# Altium footprint library Package_TO_SOT_THT.PcbLib: 236 footprints (part 1 of 15)
Each footprint in its own frame and in the unit in brackets; x right, y up, seen from the top. Pads: shape width x height; smd on the part's side, far side on the other; paste and mask are expansions set on the pad; w line width, h text height; cw(c..) or ccw(c..) is an arc to the next point about the centre after c.
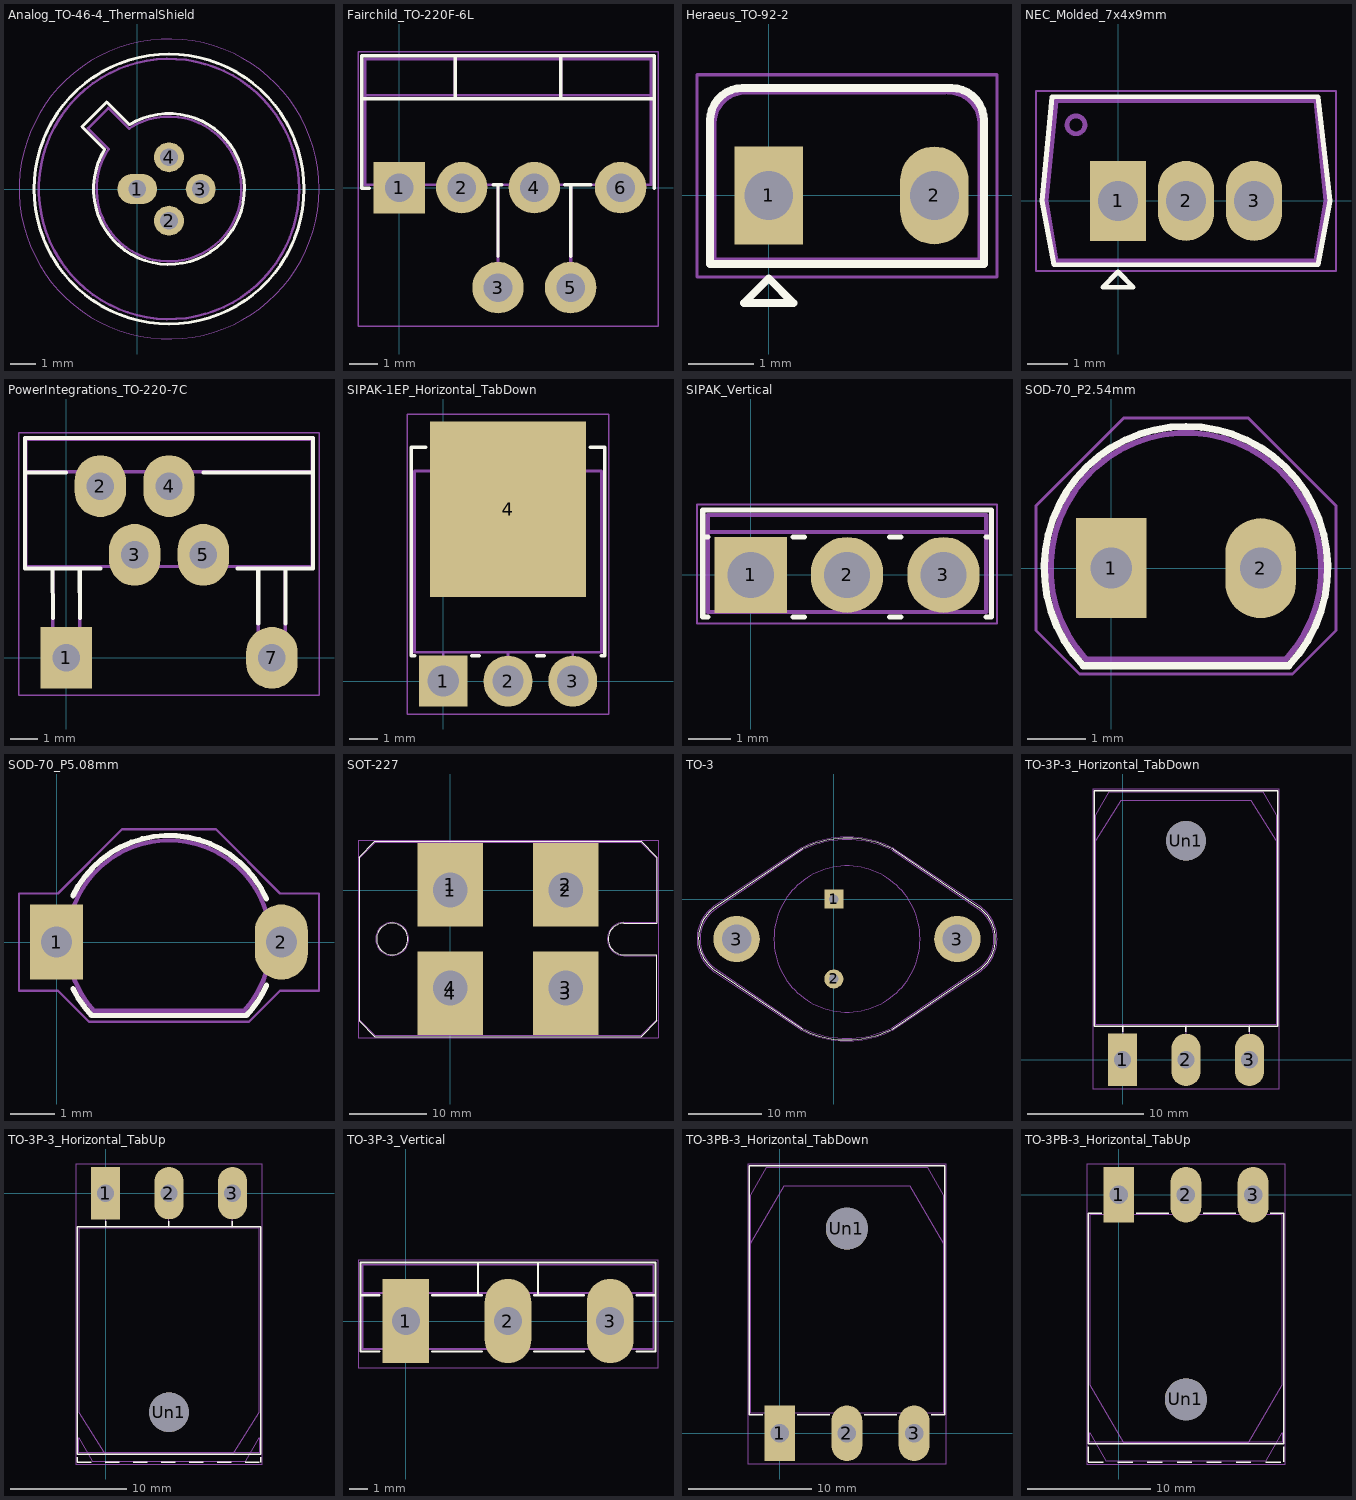
[diagram p0: the footprints below, top view; thin cyan lines are the x and y axes]

## Analog_TO-46-4_ThermalShield [mm]
pads (4):
  rrect100% 1.6x1.2 hole 0.7: 1(0,0)
  round 1.2 hole 0.7: 2(1.27,-1.27) 3(2.54,0) 4(1.27,1.27)
F.SilkS:
  circle w0.12: c1.27,0 r5.4
  lines w0.12: -2.214,2.494 -1.224,3.484 -0.312,2.572 cw(c1.27,0) -1.302,1.583 -2.214,2.494
F.CrtYd:
  circle w0.05: c1.27,0 r6
F.Fab:
  circle w0.1: c1.27,0 r5.207
  lines w0.1: -1.15,1.598 ccw(c1.27,0) -0.329,2.419 -1.156,3.247 -1.977,2.426 -1.149,1.599
  text "REF**" at 0.099,5.827 h1
  text "'.Designator'" at -2.797,-0.84 h1

## Fairchild_TO-220F-6L [mm]
pads (6):
  rect 1.8x1.8 hole 1: 1(0,0)
  rrect100% 1.8x1.8 hole 1: 2(2.19,0) 3(3.46,-3.5) 4(4.73,0) 5(6,-3.5) 6(7.75,0)
F.SilkS:
  lines w0.12: -1.31,3.111 8.93,3.111 ; -1.05,-0.021 -1.31,-0.021 -1.31,4.62 8.93,4.62 8.93,-0.021 ; 1.96,3.111 1.96,4.62 ; 3.3,0.1 3.6,0.1 ; 3.46,-2.4 3.46,0.1 ; 5.66,3.111 5.66,4.62 ; 5.8,0.1 6.7,0.1 ; 6,-2.4 6,0.1
F.CrtYd:
  lines w0.05: -1.44,-4.85 -1.44,4.75 9.06,4.75 9.06,-4.85 -1.44,-4.85
F.Fab:
  lines w0.1: -1.19,3.23 8.81,3.23 ; 0,0 0,0.1 ; 1.96,3.23 1.96,4.5 ; 5.66,3.23 5.66,4.5 ; -1.19,0.1 -1.19,4.5 8.81,4.5 8.81,0.1 -1.19,0.1
  lines w0.12: 3.46,-3.5 3.46,0.1 ; 6,-3.5 6,0.1
  text "'.Designator'" at -0.237,4.78 h1

## Heraeus_TO-92-2 [mm]
pads (2):
  rect 1.05x1.5 hole 0.75: 1(0,0)
  rrect100% 1.05x1.5 hole 0.75: 2(2.54,0)
F.SilkS:
  lines w0.12: -0.9,-1.05 3.3,-1.05 3.3,1.15 ccw(c2.8,1.15) 2.8,1.65 -0.4,1.65 ccw(c-0.4,1.15) -0.9,1.15 -0.9,-1.05 ; -0.381,-1.651 0.381,-1.651 0,-1.27 -0.381,-1.651
F.CrtYd:
  lines w0.05: -1.1,-1.25 3.5,-1.25 3.5,1.85 -1.1,1.85 -1.1,-1.25
F.Fab:
  lines w0.1: 2.7,1.6 -0.35,1.6 ccw(c-0.35,1.1) -0.85,1.1 -0.85,-1 3.25,-1 3.25,1.1 ccw(c2.75,1.1) 2.75,1.6
  text "'.Designator'" at -2.777,-0.84 h1

## NEC_Molded_7x4x9mm [mm]
pads (3):
  rect 1.4x2 hole 1: 1(0,0)
  rrect100% 1.4x2 hole 1: 2(1.7,0) 3(3.4,0)
F.SilkS:
  lines w0.12: -1.9,0 -1.6,-1.6 5,-1.6 5.3,0 5,2.6 -1.65,2.6 -1.9,0 ; -0.381,-2.159 0.381,-2.159 0,-1.778 -0.381,-2.159
F.CrtYd:
  lines w0.05: -2.05,-1.75 -2.05,2.75 5.45,2.75 5.45,-1.75 -2.05,-1.75
F.Fab:
  circle w0.12: c-1.05,1.9 r0.224
  lines w0.12: -1.8,0 -1.55,2.5 4.95,2.5 5.2,0 4.95,-1.5 -1.55,-1.5 -1.8,0
  text "'.Designator'" at -2.347,0.61 h1

## PowerIntegrations_TO-220-7C [mil]
pads (6):
  rect 75x90 hole 40: 1(0,0)
  rrect100% 75x90 hole 40: 2(50,250) 3(100,150) 4(150,250) 5(200,150) 7(300,0)
F.SilkS:
  lines w5.91: -60,270 0,270 ; -20,130 -19.29,58.27 ; 20,130 20.08,58.27 ; 50,130 -60,130 -60,320 360,320 360,130 250,130 ; 200,270 360,270 ; 280,50 280,130 ; 320,50 320,130
F.CrtYd:
  lines w1.97: -68.5,-54.72 368.5,-54.72 368.5,327.95 -68.5,327.95 -68.5,-54.72
F.Fab:
  lines w4.72: -58.66,270.87 358.66,270.87 ; -19.29,133.07 -19.29,-0.79 20.08,-0.79 20.08,133.07 ; 279.92,133.07 279.92,-0.79 319.29,-0.79 319.29,133.07 ; -58.66,133.07 -58.66,318.11 358.66,318.11 358.66,133.07 -58.66,133.07
  text "'.Designator'" at -9.32,166.92 h39.37

## SIPAK-1EP_Horizontal_TabDown [mm]
pads (4):
  rect 1.714x1.8 hole 1.1: 1(0,0)
  rrect100% 1.714x1.8 hole 1.1: 2(2.286,0) 3(4.572,0)
  rect 5.5x6.2 smd: 4(2.286,6.073)
F.SilkS:
  lines w0.12: -1.008,0.9 -1.134,0.9 -1.134,8.26 -0.614,8.26 ; 1.008,0.9 1.279,0.9 ; 3.294,0.9 3.565,0.9 ; 5.186,8.26 5.706,8.26 5.706,0.9 5.58,0.9
F.CrtYd:
  lines w0.05: -1.27,-1.16 5.84,-1.16 5.84,9.43 -1.27,9.43 -1.27,-1.16
F.Fab:
  lines w0.1: 0,0 0,1.02 ; 2.286,0 2.286,1.02 ; 4.572,0 4.572,1.02 ; -1.014,1.02 5.586,1.02 5.586,7.42 -1.014,7.42 -1.014,1.02 ; -0.379,7.42 -0.379,8.14 4.951,8.14 4.951,7.42 -0.379,7.42
  text "'.Designator'" at -1.761,9.453 h1

## SIPAK_Vertical [mm]
pads (3):
  rect 1.714x1.8 hole 1.1: 1(0,0)
  rrect100% 1.714x1.8 hole 1.1: 2(2.286,0) 3(4.572,0)
F.SilkS:
  lines w0.12: -1.134,0.9 -1.008,0.9 ; -1.008,-1 -1.134,-1 -1.134,1.54 5.706,1.54 5.706,-1 5.58,-1 ; 1.008,-1 1.279,-1 ; 1.008,0.9 1.279,0.9 ; 3.294,-1 3.565,-1 ; 3.294,0.9 3.565,0.9 ; 5.58,0.9 5.706,0.9
F.CrtYd:
  lines w0.05: -1.27,-1.15 -1.27,1.67 5.84,1.67 5.84,-1.15 -1.27,-1.15
F.Fab:
  lines w0.1: -1.014,1.02 5.586,1.02 ; -1.014,-0.88 -1.014,1.42 5.586,1.42 5.586,-0.88 -1.014,-0.88
  text "'.Designator'" at -1.761,1.7 h1

## SOD-70_P2.54mm [mm]
pads (2):
  rect 1.2x1.7 hole 0.7: 1(0,0)
  rrect100% 1.2x1.7 hole 0.7: 2(2.54,0)
F.SilkS:
  lines w0.12: -0.477,-1.66 3.017,-1.66 ccw(c1.27,0) -0.477,-1.66
F.CrtYd:
  lines w0.05: -1.28,-1.06 -0.54,-1.8 3.08,-1.8 3.82,-1.06 3.82,1.06 2.33,2.55 0.21,2.55 -1.28,1.06 -1.28,-1.06
F.Fab:
  lines w0.1: -0.429,-1.55 2.969,-1.55 ccw(c1.27,0) -0.429,-1.55
  text "'.Designator'" at -2.547,2.66 h1

## SOD-70_P5.08mm [mm]
pads (2):
  rect 1.2x1.7 hole 0.7: 1(0,0)
  rrect100% 1.2x1.7 hole 0.7: 2(5.08,0)
F.SilkS:
  lines w0.12: 0.371,-1.05 ccw(c2.54,0) 0.793,-1.66 4.287,-1.66 ccw(c2.54,0) 4.744,-0.975 ; 0.371,1.05 cw(c2.54,0) 4.744,0.975
F.CrtYd:
  lines w0.05: -0.85,-1.1 -0.85,1.1 0.03,1.1 1.48,2.55 3.6,2.55 5.05,1.1 5.93,1.1 5.93,-1.1 5.05,-1.1 4.35,-1.8 0.73,-1.8 0.03,-1.1 -0.85,-1.1
F.Fab:
  lines w0.1: 0.841,-1.55 4.239,-1.55 ccw(c2.54,0) 0.841,-1.55
  text "'.Designator'" at -1.547,2.66 h1

## SOT-227 [mm]
pads (8):
  round 8 hole 4.5: 1(0,0) 2(15.05,0) 3(15.05,-12.75) 4(0,-12.75)
  rect 8.55x10.88 smd: 1(0,0.665) 2(15.05,0.665) 3(15.05,-13.415) 4(0,-13.415)
F.SilkS:
  circle w0.12: c-7.55,-6.375 r2.04
  lines w0.12: -11.86,-17.035 -9.8,-19.085 24.85,-19.085 26.91,-17.035 26.91,-8.415 22.6,-8.415 cw(c22.6,-6.375) 22.6,-4.335 26.91,-4.335 26.91,4.285 24.85,6.335 -9.8,6.335 -11.86,4.285 -11.86,-17.035
F.CrtYd:
  lines w0.05: -12,-19.23 -12,6.48 27.05,6.48 27.05,-19.23 -12,-19.23
F.Fab:
  circle w0.1: c-7.55,-6.375 r2.15
  lines w0.1: -11.75,-16.975 -11.75,4.225 -9.75,6.225 24.8,6.225 26.8,4.225 26.8,-4.225 22.6,-4.225 ccw(c22.6,-6.375) 22.6,-8.525 26.8,-8.525 26.8,-16.975 24.8,-18.975 -9.75,-18.975 -11.75,-16.975
  text "'.Designator'" at 3.478,-6.215 h1

## TO-3 [mm]
pads (4):
  rect 2.6x2.6 hole 1.3: 1(0,0)
  round 2.6 hole 1.3: 2(0,-10.92)
  round 6.35 hole 4: 3(-13.3,-5.45) 3(16.9,-5.45)
F.SilkS:
  lines w0.12: -4.325,-17.825 ccw(c1.765,-5.561) 8.1,-17.7 19.9,-9.7 ccw(c16.9,-5.45) 19.9,-1.2 8.1,6.8 ccw(c1.801,-5.452) -4.3,6.9 -16.2,-1.1 ccw(c-13.311,-5.434) -16.3,-9.7 -4.3,-17.8
F.CrtYd:
  lines w0.05: -16.4,-9.9 -4.5,-17.9 ccw(c1.8,-5.45) 8.1,-17.9 20,-9.9 ccw(c16.9,-5.45) 20,-1 8.1,7 ccw(c1.8,-5.45) -4.5,7 -16.4,-1 ccw(c-13.3,-5.45) -16.4,-9.9
F.Fab:
  circle w0.1: c1.8,-5.45 r10
  circle w0.1: c-13.3,-5.45 r2
  circle w0.1: c16.9,-5.45 r2
  lines w0.1: -16.11,-9.58 -4.38,-17.57 ccw(c1.79,-5.403) 7.98,-17.56 19.71,-9.58 ccw(c16.9,-5.45) 19.71,-1.32 7.98,6.67 ccw(c1.8,-5.45) -4.38,6.67 -16.11,-1.32 ccw(c-13.3,-5.45) -16.11,-9.58
  text "'.Designator'" at -4.047,-5.09 h1

## TO-3P-3_Horizontal_TabDown [mm]
pads (4):
  rect 2.5x4.5 hole 1.5: 1(0,0)
  rrect100% 2.5x4.5 hole 1.5: 2(5.45,0) 3(10.9,0)
  rrect100% 3.4x3.4 hole 3.4: Un1(5.45,18.8)
F.SilkS:
  lines w0.12: 0,2.4 0,2.88 ; 5.45,2.4 5.45,2.88 ; 10.9,2.4 10.9,2.88 ; -2.42,2.88 -2.42,23.12 13.32,23.12 13.32,2.88 -2.42,2.88
F.CrtYd:
  lines w0.05: -2.55,-2.5 -2.55,23.25 13.45,23.25 13.45,-2.5 -2.55,-2.5
F.Fab:
  circle w0.1: c5.45,18.8 r1.6
  lines w0.1: 0,0 0,3 ; 5.45,0 5.45,3 ; 10.9,0 10.9,3 ; -2.3,18.8 -0.11,22.3 11.01,22.3 13.2,18.8 ; -2.3,18.8 -2.3,3 13.2,3 13.2,18.8 ; -2.3,18.8 -2.3,21 -1.15,23 12.05,23 13.2,21 13.2,18.8
  text "'.Designator'" at 1.403,23.28 h1

## TO-3P-3_Horizontal_TabUp [mm]
pads (4):
  rect 2.5x4.5 hole 1.5: 1(0,0)
  rrect100% 2.5x4.5 hole 1.5: 2(5.45,0) 3(10.9,0)
  rrect100% 3.4x3.4 hole 3.4: Un1(5.45,-18.8)
F.SilkS:
  lines w0.12: -2.42,-22.66 -2.42,-23.12 -1.22,-23.12 ; -0.021,-23.12 1.18,-23.12 ; 0,-2.88 0,-2.4 ; 2.38,-23.12 3.58,-23.12 ; 4.78,-23.12 5.98,-23.12 ; 5.45,-2.88 5.45,-2.4 ; 7.18,-23.12 8.38,-23.12 ; 9.58,-23.12 10.78,-23.12 ; 10.9,-2.88 10.9,-2.4 ; 11.98,-23.12 13.18,-23.12 ; 13.32,-23.12 13.32,-22.66 ; -2.42,-22.42 13.32,-22.42 13.32,-2.88 -2.42,-2.88 -2.42,-22.42
F.CrtYd:
  lines w0.05: -2.55,-23.25 -2.55,2.5 13.45,2.5 13.45,-23.25 -2.55,-23.25
F.Fab:
  circle w0.1: c5.45,-18.8 r1.6
  lines w0.1: 0,-3 0,0 ; 5.45,-3 5.45,0 ; 10.9,-3 10.9,0 ; -2.3,-22.3 13.2,-22.3 13.2,-21 12.05,-23 -1.15,-23 -2.3,-21 -2.3,-22.3 ; -2.3,-18.8 -2.3,-3 13.2,-3 13.2,-18.8 11.01,-22.3 -0.11,-22.3 -2.3,-18.8
  text "'.Designator'" at 1.403,-24.96 h1

## TO-3P-3_Vertical [mm]
pads (3):
  rect 2.5x4.5 hole 1.5: 1(0,0)
  rrect100% 2.5x4.5 hole 1.5: 2(5.45,0) 3(10.9,0)
F.SilkS:
  lines w0.12: -2.42,1.38 -1.4,1.38 ; -1.4,-1.62 -2.42,-1.62 -2.42,3.12 13.32,3.12 13.32,-1.62 12.3,-1.62 ; 1.4,-1.62 4.051,-1.62 ; 1.4,1.38 4.051,1.38 ; 3.85,1.38 3.85,3.12 ; 6.85,-1.62 9.5,-1.62 ; 6.85,1.38 9.5,1.38 ; 7.051,1.38 7.051,3.12 ; 12.3,1.38 13.32,1.38
F.CrtYd:
  lines w0.05: -2.55,-2.5 13.45,-2.5 13.45,3.25 -2.55,3.25 -2.55,-2.5
F.Fab:
  lines w0.1: -2.3,1.5 13.2,1.5 ; 3.85,1.5 3.85,3 ; 7.05,1.5 7.05,3 ; -2.3,-1.5 -2.3,3 13.2,3 13.2,-1.5 -2.3,-1.5
  text "'.Designator'" at 1.403,3.28 h1

## TO-3PB-3_Horizontal_TabDown [mm]
pads (4):
  rect 2.5x4.5 hole 1.5: 1(0,0)
  rrect100% 2.5x4.5 hole 1.5: 2(5.45,0) 3(10.9,0)
  rrect100% 3.4x3.4 hole 3.4: Un1(5.45,16.6)
F.SilkS:
  lines w0.12: -1.4,1.48 -2.47,1.48 -2.47,21.72 13.37,21.72 13.37,1.48 12.3,1.48 ; 1.4,1.48 4.051,1.48 ; 6.85,1.48 9.5,1.48
F.CrtYd:
  lines w0.05: -2.6,-2.5 -2.6,21.85 13.51,21.85 13.51,-2.5 -2.6,-2.5
F.Fab:
  circle w0.1: c5.45,16.6 r1.6
  lines w0.1: 0,0 0,1.6 ; 5.45,0 5.45,1.6 ; 10.9,0 10.9,1.6 ; -2.35,15.401 0.351,20.1 10.55,20.1 13.25,15.401 ; -2.35,15.401 -2.35,19.3 -1.05,21.6 11.95,21.6 13.25,19.3 13.25,15.401 ; -2.35,15.401 -2.35,1.6 13.25,1.6 13.25,15.401
  text "'.Designator'" at 1.403,21.88 h1

## TO-3PB-3_Horizontal_TabUp [mm]
pads (4):
  rect 2.5x4.5 hole 1.5: 1(0,0)
  rrect100% 2.5x4.5 hole 1.5: 2(5.45,0) 3(10.9,0)
  rrect100% 3.4x3.4 hole 3.4: Un1(5.45,-16.6)
F.SilkS:
  lines w0.12: -2.47,-21.72 -1.27,-21.72 ; -2.47,-21.66 -2.47,-20.46 ; -1.4,-1.48 -2.47,-1.48 -2.47,-20.22 13.37,-20.22 13.37,-1.48 12.3,-1.48 ; -0.07,-21.72 1.13,-21.72 ; 1.4,-1.48 4.051,-1.48 ; 2.33,-21.72 3.53,-21.72 ; 4.73,-21.72 5.931,-21.72 ; 6.85,-1.48 9.5,-1.48 ; 7.131,-21.72 8.33,-21.72 ; 9.53,-21.72 10.73,-21.72 ; 11.93,-21.72 13.13,-21.72 ; 13.37,-21.66 13.37,-20.46
F.CrtYd:
  lines w0.05: -2.6,-21.85 13.51,-21.85 13.51,2.5 -2.6,2.5 -2.6,-21.85
F.Fab:
  circle w0.1: c5.45,-16.6 r1.6
  lines w0.1: 0,-1.6 0,0 ; 5.45,-1.6 5.45,0 ; 10.9,-1.6 10.9,0 ; -2.35,-20.1 13.25,-20.1 13.25,-19.3 11.95,-21.6 -1.05,-21.6 -2.35,-19.3 -2.35,-20.1 ; -2.35,-15.401 -2.35,-1.6 13.25,-1.6 13.25,-15.401 10.55,-20.1 0.351,-20.1 -2.35,-15.401
  text "'.Designator'" at 1.403,-23.56 h1